# Altium footprint library Dip Switch.PcbLib: 9 footprints
Each footprint in its own frame and in the unit in brackets; x right, y up, seen from the top. Pads: shape width x height; smd on the part's side, far side on the other; paste and mask are expansions set on the pad; w line width, h text height; cw(c..) or ccw(c..) is an arc to the next point about the centre after c.
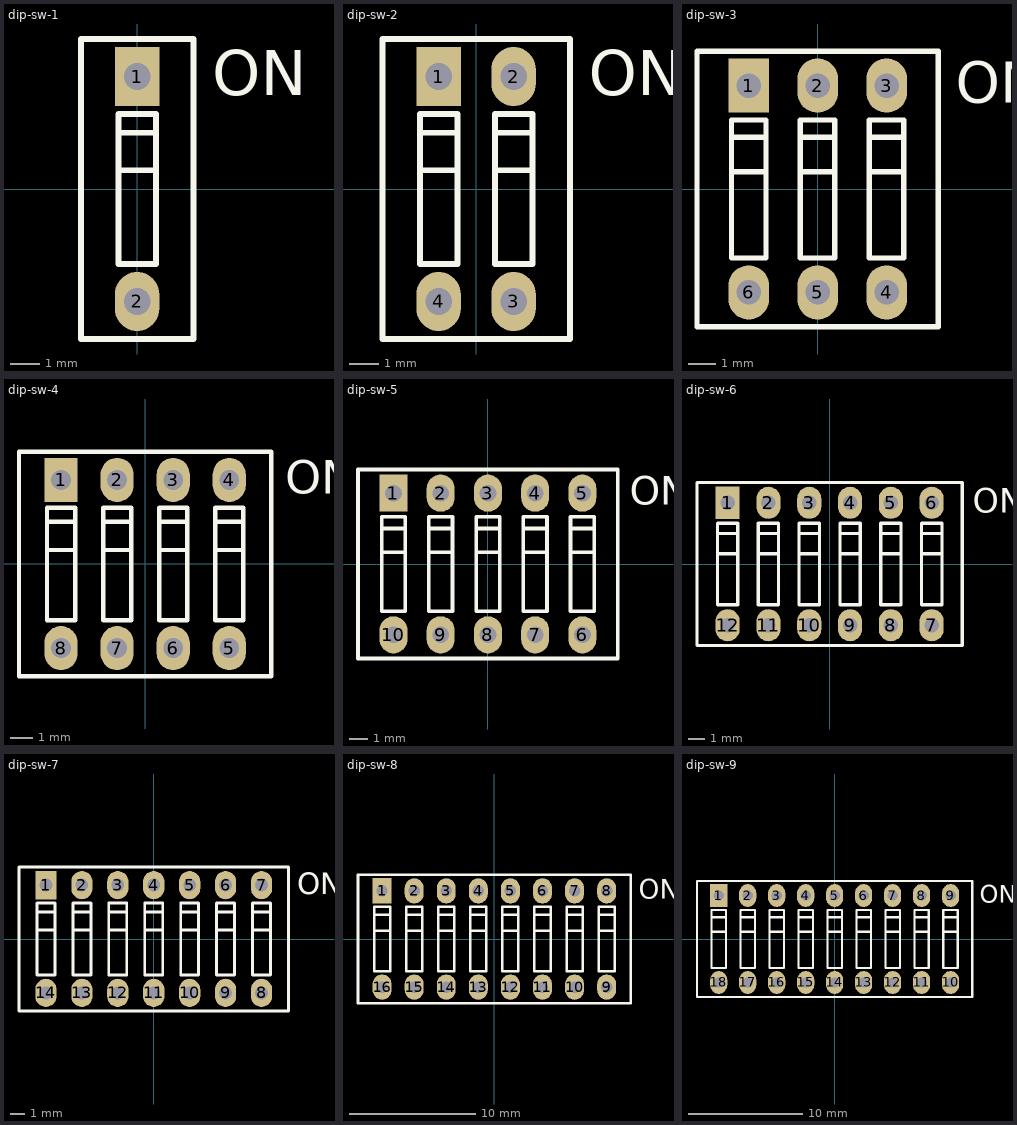
[diagram p0: the footprints below, top view; thin cyan lines are the x and y axes]

## dip-sw-1 [mm]
height 9.525
pads (2):
  rect 1.5x2 hole 0.9: 1(0,3.81)
  oval 1.5x2 hole 0.9: 2(0,-3.81)
Top Overlay:
  lines w0.2: -0.635,0.635 0.635,0.635 ; -0.635,1.905 0.635,1.905 ; -1.905,-5.08 1.905,-5.08 1.905,5.08 -1.905,5.08 -1.905,-5.08 ; -0.635,-2.54 0.635,-2.54 0.635,2.54 -0.635,2.54 -0.635,-2.54
  text "ON" at 2.54,3.175 h1.52

## dip-sw-2 [mm]
height 9.525
pads (4):
  rect 1.5x2 hole 0.9: 1(-1.27,3.81)
  oval 1.5x2 hole 0.9: 2(1.27,3.81) 3(1.27,-3.81) 4(-1.27,-3.81)
Top Overlay:
  lines w0.2: -1.905,0.635 -0.635,0.635 ; -1.905,1.905 -0.635,1.905 ; 0.635,0.635 1.905,0.635 ; 0.635,1.905 1.905,1.905 ; -3.175,-5.08 -3.175,5.08 3.175,5.08 3.175,-5.08 -3.175,-5.08 ; -1.905,-2.54 -0.635,-2.54 -0.635,2.54 -1.905,2.54 -1.905,-2.54 ; 0.635,-2.54 0.635,2.54 1.905,2.54 1.905,-2.54 0.635,-2.54
  text "ON" at 3.81,3.175 h1.52
3D body "switch_ad-dil-sw_02-n.stp": height 6.3, standoff -4, extent -3.04,-4.8 3.04,4.8

## dip-sw-3 [mm]
height 9.525
pads (6):
  rect 1.5x2 hole 0.9: 1(-2.54,3.81)
  oval 1.5x2 hole 0.9: 2(0,3.81) 3(2.54,3.81) 4(2.54,-3.81) 5(0,-3.81) 6(-2.54,-3.81)
Top Overlay:
  lines w0.2: -3.175,0.635 -1.905,0.635 ; -3.175,1.905 -1.905,1.905 ; -0.635,0.635 0.635,0.635 ; -0.635,1.905 0.635,1.905 ; 1.905,0.635 3.175,0.635 ; 1.905,1.905 3.175,1.905 ; -4.445,-5.08 4.445,-5.08 4.445,5.08 -4.445,5.08 -4.445,-5.08 ; -3.175,-2.54 -1.905,-2.54 -1.905,2.54 -3.175,2.54 -3.175,-2.54 ; -0.635,-2.54 -0.635,2.54 0.635,2.54 0.635,-2.54 -0.635,-2.54 ; 1.905,-2.54 3.175,-2.54 3.175,2.54 1.905,2.54 1.905,-2.54
  text "ON" at 5.08,3.175 h1.52
3D body "switch_ad-dil-sw_03-n.stp": height 6.3, standoff -4, extent -4.31,-4.762 4.31,4.838

## dip-sw-4 [mm]
height 9.525
pads (8):
  rect 1.5x2 hole 0.9: 1(-3.81,3.81)
  oval 1.5x2 hole 0.9: 2(-1.27,3.81) 3(1.27,3.81) 4(3.81,3.81) 5(3.81,-3.81) 6(1.27,-3.81) 7(-1.27,-3.81) 8(-3.81,-3.81)
Top Overlay:
  lines w0.2: -4.445,0.635 -3.175,0.635 ; -4.445,1.905 -3.175,1.905 ; -1.905,0.635 -0.635,0.635 ; -1.905,1.905 -0.635,1.905 ; 0.635,0.635 1.905,0.635 ; 0.635,1.905 1.905,1.905 ; 3.175,0.635 4.445,0.635 ; 3.175,1.905 4.445,1.905 ; -5.715,-5.08 5.715,-5.08 5.715,5.08 -5.715,5.08 -5.715,-5.08 ; -4.445,-2.54 -4.445,2.54 -3.175,2.54 -3.175,-2.54 -4.445,-2.54 ; -1.905,-2.54 -0.635,-2.54 -0.635,2.54 -1.905,2.54 -1.905,-2.54 ; 0.635,-2.54 0.635,2.54 1.905,2.54 1.905,-2.54 0.635,-2.54 ; 3.175,-2.54 4.445,-2.54 4.445,2.54 3.175,2.54 3.175,-2.54
  text "ON" at 6.35,3.175 h1.52
3D body "switch_ad-dil-sw_04-n.stp": height 6.3, standoff -4, extent -5.58,-4.8 5.58,4.8

## dip-sw-5 [mm]
height 9.525
pads (10):
  rect 1.5x2 hole 0.9: 1(-5.08,3.81)
  oval 1.5x2 hole 0.9: 2(-2.54,3.81) 3(0,3.81) 4(2.54,3.81) 5(5.08,3.81) 6(5.08,-3.81) 7(2.54,-3.81) 8(0,-3.81) 9(-2.54,-3.81) 10(-5.08,-3.81)
Top Overlay:
  lines w0.2: -5.715,0.635 -4.445,0.635 ; -5.715,1.905 -4.445,1.905 ; -3.175,0.635 -1.905,0.635 ; -3.175,1.905 -1.905,1.905 ; -0.635,0.635 0.635,0.635 ; -0.635,1.905 0.635,1.905 ; 1.905,0.635 3.175,0.635 ; 1.905,1.905 3.175,1.905 ; 4.445,0.635 5.715,0.635 ; 4.445,1.905 5.715,1.905 ; -6.985,-5.08 -6.985,5.08 6.985,5.08 6.985,-5.08 -6.985,-5.08 ; -5.715,-2.54 -5.715,2.54 -4.445,2.54 -4.445,-2.54 -5.715,-2.54 ; -3.175,-2.54 -3.175,2.54 -1.905,2.54 -1.905,-2.54 -3.175,-2.54 ; -0.635,-2.54 0.635,-2.54 0.635,2.54 -0.635,2.54 -0.635,-2.54 ; 1.905,-2.54 1.905,2.54 3.175,2.54 3.175,-2.54 1.905,-2.54 ; 4.445,-2.54 4.445,2.54 5.715,2.54 5.715,-2.54 4.445,-2.54
  text "ON" at 7.62,3.175 h1.52
3D body "switch_ad-dil-sw_05-n.stp": height 6.3, standoff -4, extent -6.85,-4.8 6.85,4.8

## dip-sw-6 [mm]
height 9.525
pads (12):
  rect 1.5x2 hole 0.9: 1(-6.35,3.81)
  oval 1.5x2 hole 0.9: 2(-3.81,3.81) 3(-1.27,3.81) 4(1.27,3.81) 5(3.81,3.81) 6(6.35,3.81) 7(6.35,-3.81) 8(3.81,-3.81) 9(1.27,-3.81) 10(-1.27,-3.81) 11(-3.81,-3.81) 12(-6.35,-3.81)
Top Overlay:
  lines w0.2: -6.985,0.635 -5.715,0.635 ; -6.985,1.905 -5.715,1.905 ; -4.445,0.635 -3.175,0.635 ; -4.445,1.905 -3.175,1.905 ; -1.905,0.635 -0.635,0.635 ; -1.905,1.905 -0.635,1.905 ; 0.635,0.635 1.905,0.635 ; 0.635,1.905 1.905,1.905 ; 3.175,0.635 4.445,0.635 ; 3.175,1.905 4.445,1.905 ; 5.715,0.635 6.985,0.635 ; 5.715,1.905 6.985,1.905 ; -8.255,-5.08 -8.255,5.08 8.255,5.08 8.255,-5.08 -8.255,-5.08 ; -6.985,-2.54 -6.985,2.54 -5.715,2.54 -5.715,-2.54 -6.985,-2.54 ; -4.445,-2.54 -3.175,-2.54 -3.175,2.54 -4.445,2.54 -4.445,-2.54 ; -1.905,-2.54 -1.905,2.54 -0.635,2.54 -0.635,-2.54 -1.905,-2.54 ; 0.635,-2.54 1.905,-2.54 1.905,2.54 0.635,2.54 0.635,-2.54 ; 3.175,-2.54 3.175,2.54 4.445,2.54 4.445,-2.54 3.175,-2.54 ; 5.715,-2.54 6.985,-2.54 6.985,2.54 5.715,2.54 5.715,-2.54
  text "ON" at 8.89,3.175 h1.52
3D body "switch_ad-dil-sw_06-n.stp": height 6.3, standoff -4, extent -8.12,-4.8 8.12,4.8

## dip-sw-7 [mm]
height 9.525
pads (14):
  rect 1.5x2 hole 0.9: 1(-7.62,3.81)
  oval 1.5x2 hole 0.9: 2(-5.08,3.81) 3(-2.54,3.81) 4(0,3.81) 5(2.54,3.81) 6(5.08,3.81) 7(7.62,3.81) 8(7.62,-3.81) 9(5.08,-3.81) 10(2.54,-3.81) 11(0,-3.81) 12(-2.54,-3.81) 13(-5.08,-3.81) 14(-7.62,-3.81)
Top Overlay:
  lines w0.2: -8.255,0.635 -6.985,0.635 ; -8.255,1.905 -6.985,1.905 ; -5.715,0.635 -4.445,0.635 ; -5.715,1.905 -4.445,1.905 ; -3.175,0.635 -1.905,0.635 ; -3.175,1.905 -1.905,1.905 ; -0.635,0.635 0.635,0.635 ; -0.635,1.905 0.635,1.905 ; 1.905,0.635 3.175,0.635 ; 1.905,1.905 3.175,1.905 ; 4.445,0.635 5.715,0.635 ; 4.445,1.905 5.715,1.905 ; 6.985,0.635 8.255,0.635 ; 6.985,1.905 8.255,1.905 ; -9.525,-5.08 -9.525,5.08 9.525,5.08 9.525,-5.08 -9.525,-5.08 ; -8.255,-2.54 -6.985,-2.54 -6.985,2.54 -8.255,2.54 -8.255,-2.54 ; -5.715,-2.54 -5.715,2.54 -4.445,2.54 -4.445,-2.54 -5.715,-2.54 ; -3.175,-2.54 -3.175,2.54 -1.905,2.54 -1.905,-2.54 -3.175,-2.54 ; -0.635,-2.54 0.635,-2.54 0.635,2.54 -0.635,2.54 -0.635,-2.54 ; 1.905,-2.54 1.905,2.54 3.175,2.54 3.175,-2.54 1.905,-2.54 ; 4.445,-2.54 4.445,2.54 5.715,2.54 5.715,-2.54 4.445,-2.54 ; 6.985,-2.54 8.255,-2.54 8.255,2.54 6.985,2.54 6.985,-2.54
  text "ON" at 10.16,3.175 h1.52
3D body "switch_ad-dil-sw_07-n.stp": height 6.3, standoff -4, extent -9.39,-4.8 9.39,4.8

## dip-sw-8 [mm]
height 9.525
pads (16):
  rect 1.5x2 hole 0.9: 1(-8.89,3.81)
  oval 1.5x2 hole 0.9: 2(-6.35,3.81) 3(-3.81,3.81) 4(-1.27,3.81) 5(1.27,3.81) 6(3.81,3.81) 7(6.35,3.81) 8(8.89,3.81) 9(8.89,-3.81) 10(6.35,-3.81) 11(3.81,-3.81) 12(1.27,-3.81) 13(-1.27,-3.81) 14(-3.81,-3.81) 15(-6.35,-3.81) 16(-8.89,-3.81)
Top Overlay:
  lines w0.2: -9.525,0.635 -8.255,0.635 ; -9.525,1.905 -8.255,1.905 ; -6.985,0.635 -5.715,0.635 ; -6.985,1.905 -5.715,1.905 ; -4.445,0.635 -3.175,0.635 ; -4.445,1.905 -3.175,1.905 ; -1.905,0.635 -0.635,0.635 ; -1.905,1.905 -0.635,1.905 ; 0.635,0.635 1.905,0.635 ; 0.635,1.905 1.905,1.905 ; 3.175,0.635 4.445,0.635 ; 3.175,1.905 4.445,1.905 ; 5.715,0.635 6.985,0.635 ; 5.715,1.905 6.985,1.905 ; 8.255,0.635 9.525,0.635 ; 8.255,1.905 9.525,1.905 ; -10.795,-5.08 10.795,-5.08 10.795,5.08 -10.795,5.08 -10.795,-5.08 ; -9.525,-2.54 -9.525,2.54 -8.255,2.54 -8.255,-2.54 -9.525,-2.54 ; -6.985,-2.54 -5.715,-2.54 -5.715,2.54 -6.985,2.54 -6.985,-2.54 ; -4.445,-2.54 -4.445,2.54 -3.175,2.54 -3.175,-2.54 -4.445,-2.54 ; -1.905,-2.54 -0.635,-2.54 -0.635,2.54 -1.905,2.54 -1.905,-2.54 ; 0.635,-2.54 0.635,2.54 1.905,2.54 1.905,-2.54 0.635,-2.54 ; 3.175,-2.54 4.445,-2.54 4.445,2.54 3.175,2.54 3.175,-2.54 ; 5.715,-2.54 5.715,2.54 6.985,2.54 6.985,-2.54 5.715,-2.54 ; 8.255,-2.54 9.525,-2.54 9.525,2.54 8.255,2.54 8.255,-2.54
  text "ON" at 11.43,3.175 h1.52
3D body "switch_ad-dil-sw_08-n.stp": height 6.3, standoff -4, extent -10.66,-4.8 10.66,4.8

## dip-sw-9 [mm]
height 9.525
pads (18):
  rect 1.5x2 hole 0.9: 1(-10.16,3.81)
  oval 1.5x2 hole 0.9: 2(-7.62,3.81) 3(-5.08,3.81) 4(-2.54,3.81) 5(0,3.81) 6(2.54,3.81) 7(5.08,3.81) 8(7.62,3.81) 9(10.16,3.81) 10(10.16,-3.81) 11(7.62,-3.81) 12(5.08,-3.81) 13(2.54,-3.81) 14(0,-3.81) 15(-2.54,-3.81) 16(-5.08,-3.81) 17(-7.62,-3.81) 18(-10.16,-3.81)
Top Overlay:
  lines w0.2: -10.795,0.635 -9.525,0.635 ; -10.795,1.905 -9.525,1.905 ; -8.255,0.635 -6.985,0.635 ; -8.255,1.905 -6.985,1.905 ; -5.715,0.635 -4.445,0.635 ; -5.715,1.905 -4.445,1.905 ; -3.175,0.635 -1.905,0.635 ; -3.175,1.905 -1.905,1.905 ; -0.635,0.635 0.635,0.635 ; -0.635,1.905 0.635,1.905 ; 1.905,0.635 3.175,0.635 ; 1.905,1.905 3.175,1.905 ; 4.445,0.635 5.715,0.635 ; 4.445,1.905 5.715,1.905 ; 6.985,0.635 8.255,0.635 ; 6.985,1.905 8.255,1.905 ; 9.525,0.635 10.795,0.635 ; 9.525,1.905 10.795,1.905 ; -12.065,-5.08 -12.065,5.08 12.065,5.08 12.065,-5.08 -12.065,-5.08 ; -10.795,-2.54 -10.795,2.54 -9.525,2.54 -9.525,-2.54 -10.795,-2.54 ; -8.255,-2.54 -6.985,-2.54 -6.985,2.54 -8.255,2.54 -8.255,-2.54 ; -5.715,-2.54 -5.715,2.54 -4.445,2.54 -4.445,-2.54 -5.715,-2.54 ; -3.175,-2.54 -3.175,2.54 -1.905,2.54 -1.905,-2.54 -3.175,-2.54 ; -0.635,-2.54 0.635,-2.54 0.635,2.54 -0.635,2.54 -0.635,-2.54 ; 1.905,-2.54 1.905,2.54 3.175,2.54 3.175,-2.54 1.905,-2.54 ; 4.445,-2.54 4.445,2.54 5.715,2.54 5.715,-2.54 4.445,-2.54 ; 6.985,-2.54 8.255,-2.54 8.255,2.54 6.985,2.54 6.985,-2.54 ; 9.525,-2.54 9.525,2.54 10.795,2.54 10.795,-2.54 9.525,-2.54
  text "ON" at 12.7,3.175 h1.52